# EAGLE library part SPSWITCH (library Sumobot)
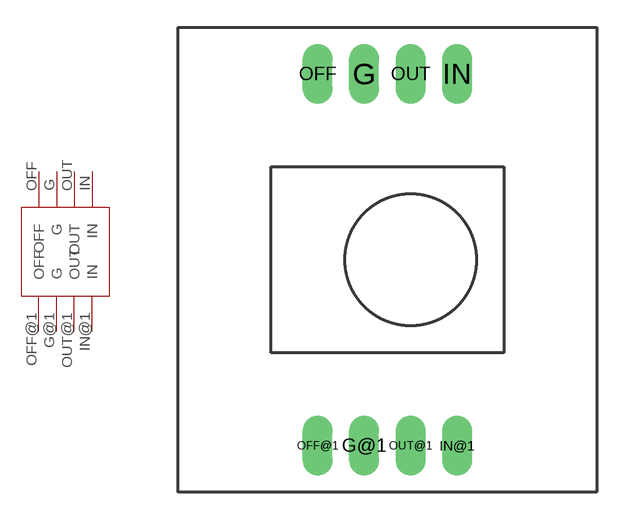
[diagram p2: symbol with the pads of SPSWITCH; footprint SPSWITCH]

Designator prefix -

## SPSWITCH  [SPSWITCH]
G  G
G@1  G
IN  IN
IN@1  IN
OFF  OFF
OFF@1  OFF
OUT  OUT
OUT@1  OUT

## Footprint SPSWITCH (pad centres in mm)
drill 1.016 pad 1.651 long: G 0,10.16; G@1 0,-10.16; IN 5.08,10.16; IN@1 5.08,-10.16; OFF -2.54,10.16; OFF@1 -2.54,-10.16; OUT 2.54,10.16; OUT@1 2.54,-10.16